# Altium schematic symbol library Diodes.SchLib: 1 symbol
Pins are listed as number, name and electrical type; pins without a type are passive.

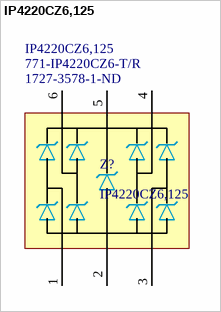
[diagram p0: symbol IP4220CZ6,125]

## IP4220CZ6,125
designator Z?  Supplier Part Number 1: 1727-3578-1-ND  Supplier Part Number 2: 771-IP4220CZ6-T/R
TVS DIODE 5.5V 6TSOP (Low capacitance, USB); PNP-Nzl: 2; PNP-dx: 0; PNP-X: 2.9; PNP-Y: 1.3; PNP-A: 270; PNP-Thk: 1; PNP-Lv: 26; PNP-TS: 90; PNP-Type: CHP; PNP-FeedType: Tape; PNP-TapeWidth: 8; PNP-PlacePriority: 3; PNP-dy: 0; PNP-Pt: 0; PNP-W: 0; PNP-Level: 1; PNP-Voff: 0; PNP-TapeIndex: 1; PNP-da: 0; Supplier 1: Digi-Key; Supplier 2: Mouser; Supplier 3: Arrow; Supplier Part Number 3: IP4220CZ6,125
footprint PESD3V3S4UD - SOT95P275X110-6N (SOT23, 6-Leads, Body 2.90x2.75mm, Pitch 0.95mm, IPC Medium Density)
pins: 1, 2, 3, 4, 5, 6